# Altium schematic symbol library CD74AC04M.SchLib: 1 symbol
Pins are listed as number, name and electrical type; pins without a type are passive.

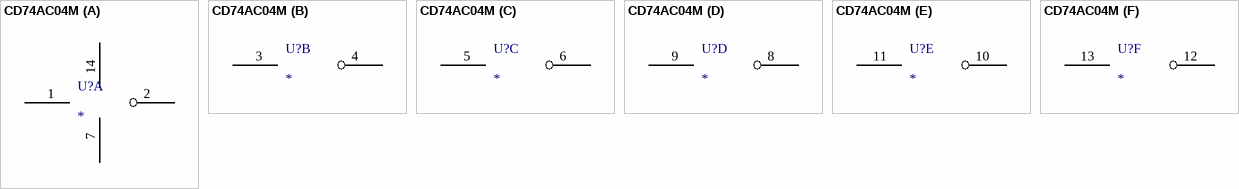
[diagram p0: symbol CD74AC04M]

## CD74AC04M
designator U?
part A pins: 1 1A, 2 1Y, 7 GND (power), 14 VCC (power)
part B pins: 3 2A, 4 2Y
part C pins: 5 3A, 6 3Y
part D pins: 8 4Y, 9 4A
part E pins: 10 5Y, 11 5A
part F pins: 12 6Y, 13 6A